# Altium schematic symbol library Microcontroller.SchLib: 2 symbols
Pins are listed as number, name and electrical type; pins without a type are passive.

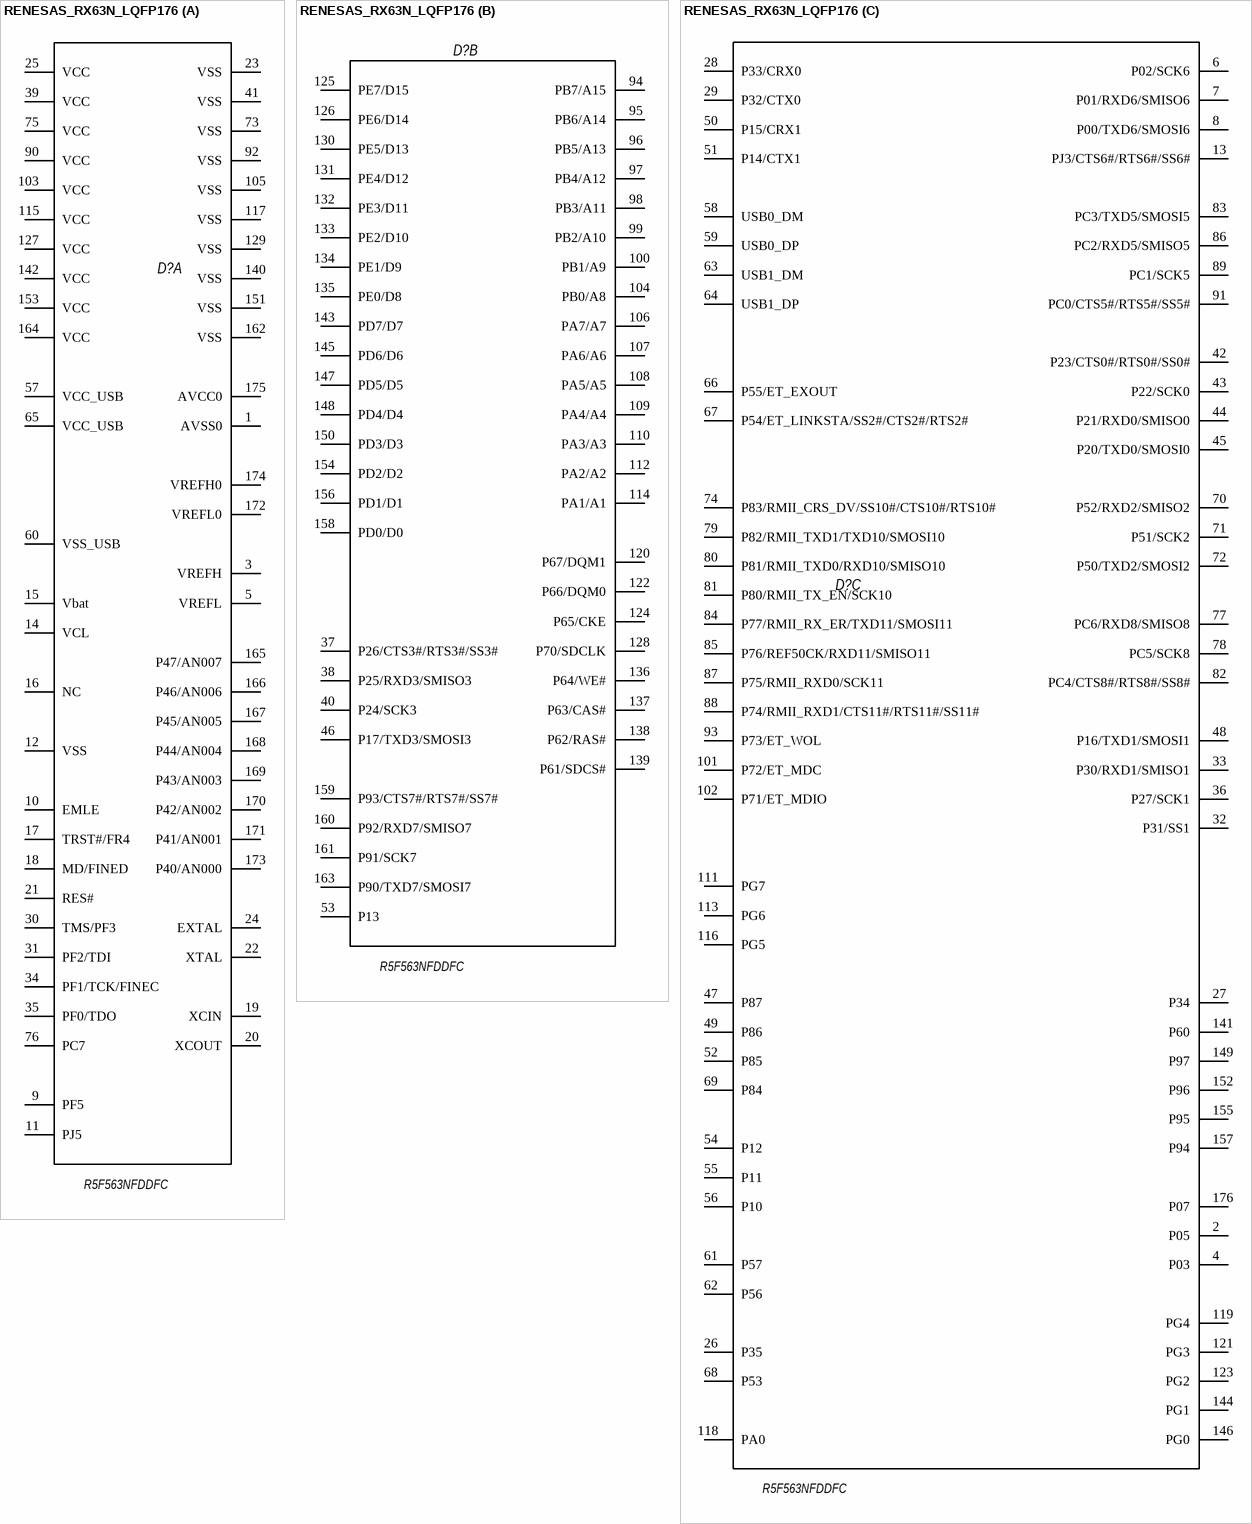
[diagram p0: symbol RENESAS_RX63N_LQFP176]

## RENESAS_RX63N_LQFP176
designator D?  Type: R5F563NFDDFC  (hidden comment: *)
footprint PLQP0176KB-A_L (Shrink QFP, 176-Leads, Body 24x24mm, Pitch 0.5mm, IPC High Density)
part A pins: 1 AVSS0, 3 VREFH, 5 VREFL, 9 PF5, 10 EMLE, 11 PJ5, 12 VSS, 14 VCL, 15 Vbat, 16 NC, 17 TRST#/FR4, 18 MD/FINED, 19 XCIN, 20 XCOUT, 21 RES#, 22 XTAL, 23 VSS, 24 EXTAL, 25 VCC, 30 TMS/PF3, 31 PF2/TDI, 34 PF1/TCK/FINEC, 35 PF0/TDO, 39 VCC, 41 VSS, 57 VCC_USB, 60 VSS_USB, 65 VCC_USB, 73 VSS, 75 VCC, 76 PC7, 90 VCC, 92 VSS, 103 VCC, 105 VSS, 115 VCC, 117 VSS, 127 VCC, 129 VSS, 140 VSS, 142 VCC, 151 VSS, 153 VCC, 162 VSS, 164 VCC, 165 P47/AN007, 166 P46/AN006, 167 P45/AN005, 168 P44/AN004, 169 P43/AN003, 170 P42/AN002, 171 P41/AN001, 172 VREFL0, 173 P40/AN000, 174 VREFH0, 175 AVCC0
part B pins: 37 P26/CTS3#/RTS3#/SS3#, 38 P25/RXD3/SMISO3, 40 P24/SCK3, 46 P17/TXD3/SMOSI3, 53 P13, 94 PB7/A15, 95 PB6/A14, 96 PB5/A13, 97 PB4/A12, 98 PB3/A11, 99 PB2/A10, 100 PB1/A9, 104 PB0/A8, 106 PA7/A7, 107 PA6/A6, 108 PA5/A5, 109 PA4/A4, 110 PA3/A3, 112 PA2/A2, 114 PA1/A1, 120 P67/DQM1, 122 P66/DQM0, 124 P65/CKE, 125 PE7/D15, 126 PE6/D14, 128 P70/SDCLK, 130 PE5/D13, 131 PE4/D12, 132 PE3/D11, 133 PE2/D10, 134 PE1/D9, 135 PE0/D8, 136 P64/WE#, 137 P63/CAS#, 138 P62/RAS#, 139 P61/SDCS#, 143 PD7/D7, 145 PD6/D6, 147 PD5/D5, 148 PD4/D4, 150 PD3/D3, 154 PD2/D2, 156 PD1/D1, 158 PD0/D0, 159 P93/CTS7#/RTS7#/SS7#, 160 P92/RXD7/SMISO7, 161 P91/SCK7, 163 P90/TXD7/SMOSI7
part C pins: 2 P05, 4 P03, 6 P02/SCK6, 7 P01/RXD6/SMISO6, 8 P00/TXD6/SMOSI6, 13 PJ3/CTS6#/RTS6#/SS6#, 26 P35, 27 P34, 28 P33/CRX0, 29 P32/CTX0, 32 P31/SS1, 33 P30/RXD1/SMISO1, 36 P27/SCK1, 42 P23/CTS0#/RTS0#/SS0#, 43 P22/SCK0, 44 P21/RXD0/SMISO0, 45 P20/TXD0/SMOSI0, 47 P87, 48 P16/TXD1/SMOSI1, 49 P86, 50 P15/CRX1, 51 P14/CTX1, 52 P85, 54 P12, 55 P11, 56 P10, 58 USB0_DM, 59 USB0_DP, 61 P57, 62 P56, 63 USB1_DM, 64 USB1_DP, 66 P55/ET_EXOUT, 67 P54/ET_LINKSTA/SS2#/CTS2#/RTS2#, 68 P53, 69 P84, 70 P52/RXD2/SMISO2, 71 P51/SCK2, 72 P50/TXD2/SMOSI2, 74 P83/RMII_CRS_DV/SS10#/CTS10#/RTS10#, 77 PC6/RXD8/SMISO8, 78 PC5/SCK8, 79 P82/RMII_TXD1/TXD10/SMOSI10, 80 P81/RMII_TXD0/RXD10/SMISO10, 81 P80/RMII_TX_EN/SCK10, 82 PC4/CTS8#/RTS8#/SS8#, 83 PC3/TXD5/SMOSI5, 84 P77/RMII_RX_ER/TXD11/SMOSI11, 85 P76/REF50CK/RXD11/SMISO11, 86 PC2/RXD5/SMISO5, 87 P75/RMII_RXD0/SCK11, 88 P74/RMII_RXD1/CTS11#/RTS11#/SS11#, 89 PC1/SCK5, 91 PC0/CTS5#/RTS5#/SS5#, 93 P73/ET_WOL, 101 P72/ET_MDC, 102 P71/ET_MDIO, 111 PG7, 113 PG6, 116 PG5, 118 PA0, 119 PG4, 121 PG3, 123 PG2, 141 P60, 144 PG1, 146 PG0, 149 P97, 152 P96, 155 P95, 157 P94, 176 P07

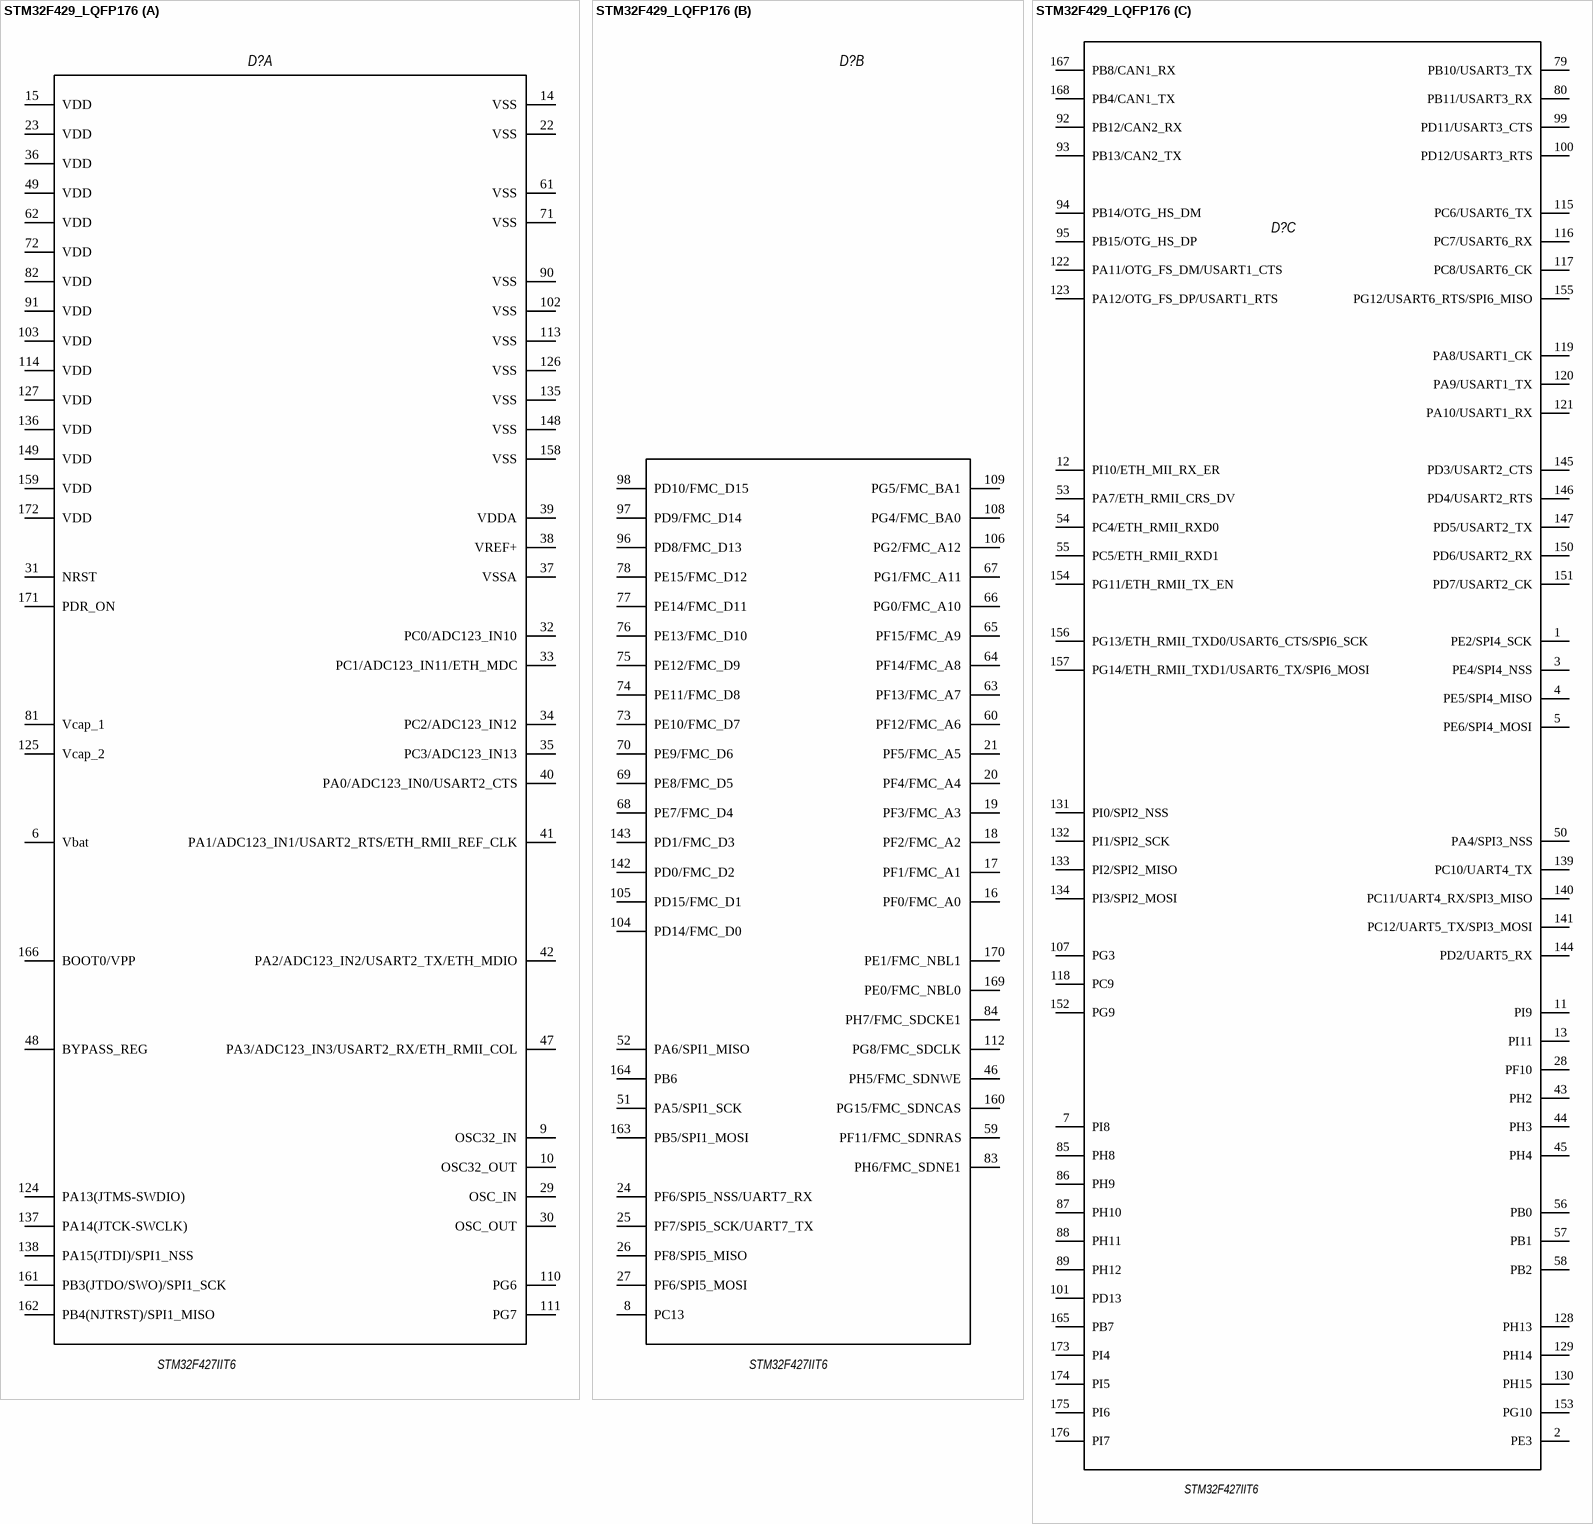
[diagram p1: symbol STM32F429_LQFP176]

## STM32F429_LQFP176
designator D?  Type: STM32F427IIT6  (hidden comment: *)
footprint PLQP0176KB-A_L (Shrink QFP, 176-Leads, Body 24x24mm, Pitch 0.5mm, IPC High Density)
part A pins: 6 Vbat, 9 OSC32_IN, 10 OSC32_OUT, 14 VSS, 15 VDD, 22 VSS, 23 VDD, 29 OSC_IN, 30 OSC_OUT, 31 NRST, 32 PC0/ADC123_IN10, 33 PC1/ADC123_IN11/ETH_MDC, 34 PC2/ADC123_IN12, 35 PC3/ADC123_IN13, 36 VDD, 37 VSSA, 38 VREF+, 39 VDDA, 40 PA0/ADC123_IN0/USART2_CTS, 41 PA1/ADC123_IN1/USART2_RTS/ETH_RMII_REF_CLK, 42 PA2/ADC123_IN2/USART2_TX/ETH_MDIO, 47 PA3/ADC123_IN3/USART2_RX/ETH_RMII_COL, 48 BYPASS_REG, 49 VDD, 61 VSS, 62 VDD, 71 VSS, 72 VDD, 81 Vcap_1, 82 VDD, 90 VSS, 91 VDD, 102 VSS, 103 VDD, 110 PG6, 111 PG7, 113 VSS, 114 VDD, 124 PA13(JTMS-SWDIO), 125 Vcap_2, 126 VSS, 127 VDD, 135 VSS, 136 VDD, 137 PA14(JTCK-SWCLK), 138 PA15(JTDI)/SPI1_NSS, 148 VSS, 149 VDD, 158 VSS, 159 VDD, 161 PB3(JTDO/SWO)/SPI1_SCK, 162 PB4(NJTRST)/SPI1_MISO, 166 BOOT0/VPP, 171 PDR_ON, 172 VDD
part B pins: 8 PC13, 16 PF0/FMC_A0, 17 PF1/FMC_A1, 18 PF2/FMC_A2, 19 PF3/FMC_A3, 20 PF4/FMC_A4, 21 PF5/FMC_A5, 24 PF6/SPI5_NSS/UART7_RX, 25 PF7/SPI5_SCK/UART7_TX, 26 PF8/SPI5_MISO, 27 PF6/SPI5_MOSI, 46 PH5/FMC_SDNWE, 51 PA5/SPI1_SCK, 52 PA6/SPI1_MISO, 59 PF11/FMC_SDNRAS, 60 PF12/FMC_A6, 63 PF13/FMC_A7, 64 PF14/FMC_A8, 65 PF15/FMC_A9, 66 PG0/FMC_A10, 67 PG1/FMC_A11, 68 PE7/FMC_D4, 69 PE8/FMC_D5, 70 PE9/FMC_D6, 73 PE10/FMC_D7, 74 PE11/FMC_D8, 75 PE12/FMC_D9, 76 PE13/FMC_D10, 77 PE14/FMC_D11, 78 PE15/FMC_D12, 83 PH6/FMC_SDNE1, 84 PH7/FMC_SDCKE1, 96 PD8/FMC_D13, 97 PD9/FMC_D14, 98 PD10/FMC_D15, 104 PD14/FMC_D0, 105 PD15/FMC_D1, 106 PG2/FMC_A12, 108 PG4/FMC_BA0, 109 PG5/FMC_BA1, 112 PG8/FMC_SDCLK, 142 PD0/FMC_D2, 143 PD1/FMC_D3, 160 PG15/FMC_SDNCAS, 163 PB5/SPI1_MOSI, 164 PB6, 169 PE0/FMC_NBL0, 170 PE1/FMC_NBL1
part C pins: 1 PE2/SPI4_SCK, 2 PE3, 3 PE4/SPI4_NSS, 4 PE5/SPI4_MISO, 5 PE6/SPI4_MOSI, 7 PI8, 11 PI9, 12 PI10/ETH_MII_RX_ER, 13 PI11, 28 PF10, 43 PH2, 44 PH3, 45 PH4, 50 PA4/SPI3_NSS, 53 PA7/ETH_RMII_CRS_DV, 54 PC4/ETH_RMII_RXD0, 55 PC5/ETH_RMII_RXD1, 56 PB0, 57 PB1, 58 PB2, 79 PB10/USART3_TX, 80 PB11/USART3_RX, 85 PH8, 86 PH9, 87 PH10, 88 PH11, 89 PH12, 92 PB12/CAN2_RX, 93 PB13/CAN2_TX, 94 PB14/OTG_HS_DM, 95 PB15/OTG_HS_DP, 99 PD11/USART3_CTS, 100 PD12/USART3_RTS, 101 PD13, 107 PG3, 115 PC6/USART6_TX, 116 PC7/USART6_RX, 117 PC8/USART6_CK, 118 PC9, 119 PA8/USART1_CK, 120 PA9/USART1_TX, 121 PA10/USART1_RX, 122 PA11/OTG_FS_DM/USART1_CTS, 123 PA12/OTG_FS_DP/USART1_RTS, 128 PH13, 129 PH14, 130 PH15, 131 PI0/SPI2_NSS, 132 PI1/SPI2_SCK, 133 PI2/SPI2_MISO, 134 PI3/SPI2_MOSI, 139 PC10/UART4_TX, 140 PC11/UART4_RX/SPI3_MISO, 141 PC12/UART5_TX/SPI3_MOSI, 144 PD2/UART5_RX, 145 PD3/USART2_CTS, 146 PD4/USART2_RTS, 147 PD5/USART2_TX, 150 PD6/USART2_RX, 151 PD7/USART2_CK, 152 PG9, 153 PG10, 154 PG11/ETH_RMII_TX_EN, 155 PG12/USART6_RTS/SPI6_MISO, 156 PG13/ETH_RMII_TXD0/USART6_CTS/SPI6_SCK, 157 PG14/ETH_RMII_TXD1/USART6_TX/SPI6_MOSI, 165 PB7, 167 PB8/CAN1_RX, 168 PB4/CAN1_TX, 173 PI4, 174 PI5, 175 PI6, 176 PI7